# EAGLE library part MOLEX-39357-6 (library Rebel)
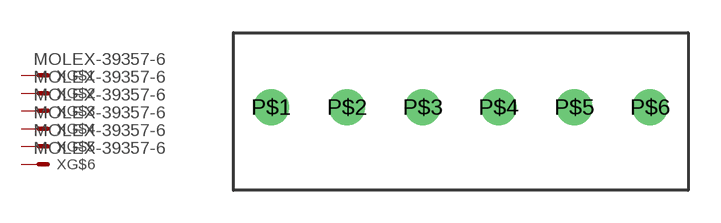
[diagram p12: symbol with the pads of MOLEX-39357-6; footprint MOLEX-39357-6]

Designator prefix X; gates G$1=PIN G$2=PIN G$3=PIN G$4=PIN G$5=PIN G$6=PIN

## MOLEX-39357-6  [MOLEX-39357-6]
P$1  G$1:S  pas
P$2  G$2:S  pas
P$3  G$3:S  pas
P$4  G$4:S  pas
P$5  G$5:S  pas
P$6  G$6:S  pas

## Footprint MOLEX-39357-6 (pad centres in mm)
drill 1.1: P$1 -8.75,0; P$2 -5.25,0; P$3 -1.75,0; P$4 1.75,0; P$5 5.25,0; P$6 8.75,0